# EAGLE library part 74LVC1G19GW,125 (library SamacSys_Parts)
Decoder / Demultiplexer, LVC Family, 2 Output, 1.65 V to 5.5 V, SC-88-6 Source: Datasheet <https://componentsearchengine.com/Datasheets/1/74LVC1G19GW,125.pdf>
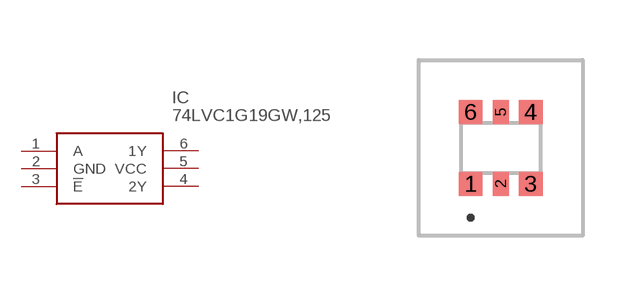
[diagram p126: symbol with the pads of 74LVC1G19GW125; footprint 74LVC1G19GW125]

Designator prefix IC

## 74LVC1G19GW,125 (DESCRIPTION: Decoder / Demultiplexer, LVC Family, 2 Output, 1.65 V to 5.5 V, SC-88-6; HEIGHT: 1.1mm; MANUFACTURER_NAME: Nexperia; MANUFACTURER_PART_NUMBER: 74LVC1G19GW,125; MOUSER_PART_NUMBER: 771-LVC1G19GW125; MOUSER_PRICE-STOCK: https://www.mouser.com/Search/Refine.aspx?Keyword=771-LVC1G19GW125)  [74LVC1G19GW125]
1  A
2  GND
3  !E
4  2Y
5  VCC
6  1Y

## Footprint 74LVC1G19GW125 (pad centres in mm)
74LVC1G19GW,125-2
smd 0.6 x 0.6: 1 -0.75,-0.9; 3 0.75,-0.9; 4 0.75,0.9; 6 -0.75,0.9
smd 0.4 x 0.6: 2 0,-0.9; 5 0,0.9